# Altium footprint library SIGMA_2D.PcbLib: 200 footprints (part 1 of 13)
Each footprint in its own frame and in the unit in brackets; x right, y up, seen from the top. Pads: shape width x height; smd on the part's side, far side on the other; paste and mask are expansions set on the pad; w line width, h text height; cw(c..) or ccw(c..) is an arc to the next point about the centre after c.
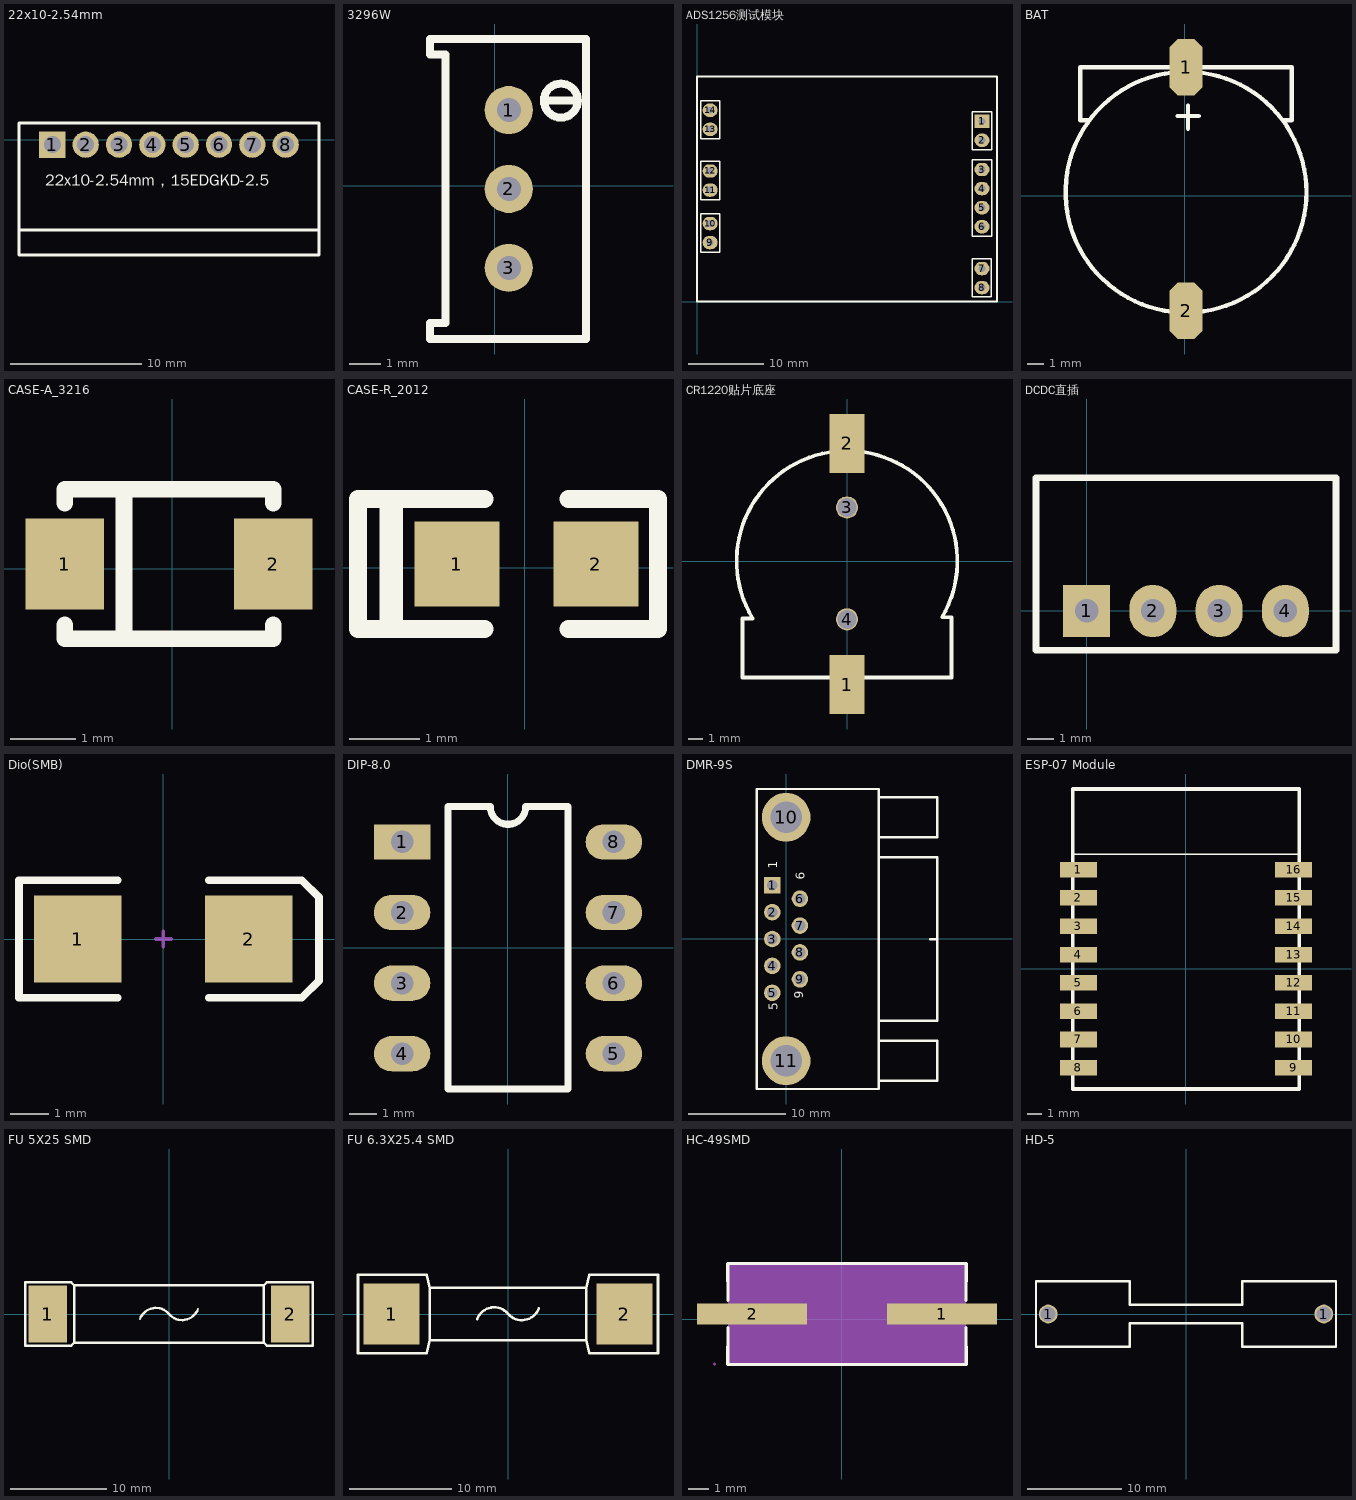
[diagram p0: the footprints below, top view; thin cyan lines are the x and y axes]

## 22x10-2.54mm [mm]
pads (8):
  rect 2x2 hole 1.3: 1(-23.698,-0.381)
  round 2 hole 1.3: 2(-21.158,-0.381) 3(-18.618,-0.381) 4(-16.078,-0.381) 5(-13.538,-0.381) 6(-10.998,-0.381) 7(-8.458,-0.381) 8(-5.918,-0.381)
Top Overlay:
  lines w0.254: -26.238,-6.883 -3.404,-6.883 ; -26.238,-8.788 -17.348,-8.788 -12.268,-8.788 -3.378,-8.788 -3.378,1.27 -26.238,1.27 -26.238,-8.788
  text "22x10-2.54mm，15EDGKD-2.5" at -24.232,-3.81 h1.52

## 3296W [mil]
pads (3):
  round 60 hole 30: 1(17.43,94.64) 2(17.43,-3.78) 3(17.43,-102.21)
Top Overlay:
  lines w10: 67.42,106.61 82.42,106.61 ; 103.62,106.21 cw(c82.41,106.41) 103.62,106.61 ; 113.88,-191 -79.03,-191 -81,-191 -81,-171.3 -61.31,-171.3 -61.31,163.74 -81,163.74 -81,183.23 -79.03,183.23 113.88,183.23 113.88,-190.79 ; 82.42,106.61 97.42,106.61 82.42,106.61
Mechanical 15:
  lines w0.1: 15.44,10.56 17.44,12.56

## ADS1256测试模块 [mm]
pads (14):
  rect 2x1.8 hole 0.9: 1(38,24.04)
  oval 2x1.8 hole 0.9: 2(38,21.5) 3(38,17.6) 4(38,15.06) 5(38,12.52) 6(38,9.98) 7(38,4.4) 8(38,1.86) 9(1.75,7.86) 10(1.75,10.4) 11(1.75,14.86) 12(1.75,17.4) 13(1.75,22.96) 14(1.75,25.5)
Top Overlay:
  lines w0.2: 0.48,6.59 3.02,6.59 3.02,11.67 0.48,11.67 0.48,6.59 ; 0.48,13.59 3.02,13.59 3.02,18.67 0.48,18.67 0.48,13.59 ; 0.48,21.69 3.02,21.69 3.02,26.77 0.48,26.77 0.48,21.69 ; 36.726,0.608 39.266,0.608 39.266,5.688 36.726,5.688 36.726,0.608 ; 36.73,8.71 39.27,8.71 39.27,18.87 36.73,18.87 36.73,8.71 ; 36.73,20.23 39.27,20.23 39.27,25.31 36.73,25.31 36.73,20.23
  lines w0.254: 0,0 40,0 40,30 0,30 0,0

## BAT [mm] "CR1220"
pads (2):
  oct 2x3.4 smd: 1(0.076,7.722) 2(0.076,-6.883)
Top Overlay:
  circle w0.254: c0.076,0.229 r7.227
  lines w0.254: -5.766,4.547 -6.274,4.547 -6.274,7.214 -6.274,7.722 6.426,7.722 6.426,7.214 6.426,4.547 5.918,4.547 ; -0.432,4.801 0.838,4.801 ; 0.203,4.039 0.203,5.436

## CASE-A_3216 [mm]
pads (2):
  rect 1.2x1.4 smd: 1(-1.651,0.076) 2(1.549,0.076)
Top Overlay:
  lines w0.254: -1.651,-0.855 -1.651,-1.067 -0.179,-1.067 1.549,-1.067 1.549,-0.855 ; -1.651,1.007 -1.651,1.219 1.549,1.219 1.549,1.007 ; -0.74,-1.067 -0.74,1.219

## CASE-R_2012 [mil]
pads (2):
  rect 47.5x47.5 smd: 1(-38,2) 2(40,2)
Top Overlay:
  lines w10: -22.6,-34.5 -93.5,-34.5 -93.5,38.5 -22.6,38.5 ; 24.6,-34.5 74.8,-34.5 74.8,38.5 24.6,38.5
  lines w13: -74.8,-32.4 -74.8,36.4

## CR1220贴片底座 [mm]
height 4.1
pads (4):
  rect 2.4x4 smd: 1(0,-8.382) 2(0,8)
  round 1.5 hole 1.3: 3(0,3.65) 4(0,-3.95)
Top Overlay:
  lines w0.254: -6.424,-3.9 -7.1,-3.9 -7.1,-7.9 7.1,-7.9 7.1,-3.803 6.465,-3.803 ccw(c0,0) -6.424,-3.871

## DCDC直插 [mm] "11.50× 6.00 × 10.00mm"
height 10
pads (4):
  rect 1.8x2 hole 0.9: 1(0,0)
  oval 1.8x2 hole 0.9: 2(2.54,0) 3(5.08,0) 4(7.62,0)
Top Overlay:
  lines w0.254: -1.94,-1.5 -1.94,5.1 9.56,5.1 9.56,-1.5 -1.94,-1.5

## Dio(SMB) [mm]
pads (2):
  rect 2.3x2.3 smd: 1(-2.25,0) 2(2.25,0)
Top Overlay:
  lines w0.2: -1.2,-1.55 -3.8,-1.55 -3.8,1.55 -1.2,1.55 ; 1.2,-1.55 3.65,-1.55 4.1,-1.1 4.1,1.1 3.65,1.55 1.2,1.55
Mechanical 1:
  lines w0.1: -0.2,0 0.2,0 ; 0,-0.2 0,0.2

## DIP-8.0 [mil]
pads (8):
  rect 80x50 hole 32: 1(-150,150)
  oval 80x50 hole 32: 2(-150,50) 3(-150,-50) 4(-150,-150) 5(150,-150) 6(150,-50) 7(150,50) 8(150,150)
Top Overlay:
  lines w10: -85,-200 85,-200 85,200 25,200 cw(c0,200) -25,200 -85,200 -85,-200
  text "." at -156.42,208.19 h60

## DMR-9S [mm]
pads (11):
  rect 1.7x1.7 hole 1.1: 1(-1.42,5.52)
  round 1.7 hole 1.1: 2(-1.42,2.76) 3(-1.42,0) 4(-1.42,-2.76) 5(-1.42,-5.52) 6(1.42,4.14) 7(1.42,1.38) 8(1.42,-1.38) 9(1.42,-4.14)
  round 5 hole 3.25: 10(0,12.5) 11(0,-12.5)
Top Overlay:
  lines w0.254: 9.5,-14.57 15.5,-14.57 ; 9.5,-10.43 15.5,-10.43 15.5,-14.54 ; 9.5,-8.38 15.5,-8.38 15.5,8.37 9.5,8.37 ; 9.5,10.43 15.5,10.43 ; 9.5,14.57 15.499,14.57 15.499,10.46 ; 14.78,-0.005 15.48,-0.005 ; -3,-15.4 9.5,-15.4 9.5,15.4 -3,15.4 -3,-15.4
  text "1" at -0.889,7.188 h0.89
  text "5" at -0.864,-7.315 h0.89
  text "9" at 1.778,-6.147 h0.89
  text "6" at 1.905,6.071 h0.89

## ESP-07 Module [mm]
pads (16):
  rect 2.6x1.1 smd: 1(-7.6,7) 2(-7.6,5) 3(-7.6,3) 4(-7.6,1) 5(-7.6,-1) 6(-7.6,-3) 7(-7.6,-5) 8(-7.6,-7) 9(7.6,-7) 10(7.6,-5) 11(7.6,-3) 12(7.6,-1) 13(7.6,1) 14(7.6,3) 15(7.6,5) 16(7.6,7)
Top Overlay:
  lines w0.1: -8,8.1 8,8.1
  lines w0.254: -8,-8.5 8,-8.5 8,12.7 -8,12.7 -8,-8.5

## FU 5X25 SMD [mm]
pads (2):
  rect 4x6 smd: 1(-12.66,0) 2(12.66,0)
Top Overlay:
  lines w0.254: -12.5,3.3 -12.4,3.3 ; -3.027,-0.52 cw(c-1.362,-1.143) 0,0 ccw(c1.362,1.143) 3.027,0.52 ; -9.9,-3 -9.9,3 ; -9.9,-3 -10.2,-3.3 -15,-3.3 -15,3.3 -10.2,3.3 -9.9,3 ; -9.9,-3 9.9,-3 ; -9.9,3 9.9,3 ; 9.9,-3 9.9,3 ; 9.9,-3 10.2,-3.3 15,-3.3 15,3.3 10.2,3.3 9.9,3

## FU 6.3X25.4 SMD [mm]
pads (2):
  rect 5.5x6 smd: 1(-11.43,0) 2(11.43,0)
Top Overlay:
  lines w0.254: -3.027,-0.494 cw(c-1.362,-1.117) 0,0.025 ccw(c1.362,1.168) 3.027,0.545 ; -7.68,-2.56 -7.68,2.56 ; -7.68,-2.56 7.68,-2.56 ; -7.68,-2.56 -7.98,-3.84 -14.72,-3.84 -14.72,3.81 -14.72,3.84 -7.98,3.84 -7.68,2.56 ; -7.68,2.56 7.68,2.56 ; 7.68,-2.56 7.68,2.56 ; 7.68,-2.56 7.98,-3.84 14.72,-3.84 14.72,3.84 7.98,3.84 7.68,2.56

## HC-49SMD [mm]
pads (2):
  rect 5.274x1.02 smd: 1(4.809,0.254) 2(-4.297,0.254)
Top Overlay:
  lines w0.152: -5.444,-0.408 -5.459,-2.159 5.971,-2.159 5.956,-0.408 ; -5.444,0.916 -5.459,2.667 5.971,2.667 5.956,0.916
Mechanical 4:
  region: -5.444,-2.146 -5.444,2.654 5.956,2.654 5.956,-2.146
Mechanical 5:
  region: 6.606,-0.046 6.606,0.554 2.256,0.554 2.256,-0.046
  region: -6.094,-0.046 -6.094,0.554 -1.744,0.554 -1.744,-0.046
Mechanical 6:
  circle w0.06: c-6.094,-2.146 r0.03
Mechanical 15:
  lines w0.003: 0.23,0.667 0.281,0.718

## HD-5 [mm] "散热器 32*7*22 2个钉散热板"
height 22
pads (2):
  round 2 hole 1.6: 1(-14.7,0) 1(14.7,0)
Top Overlay:
  lines w0.254: -16,-3.5 -6,-3.5 -6,-1 6,-1 6,-3.5 16,-3.5 16,3.5 6,3.5 6,1 -6,1 -6,3.5 -16,3.5 -16,-3.5